# EAGLE library part MICRO_SD (library p.peter-connectors)
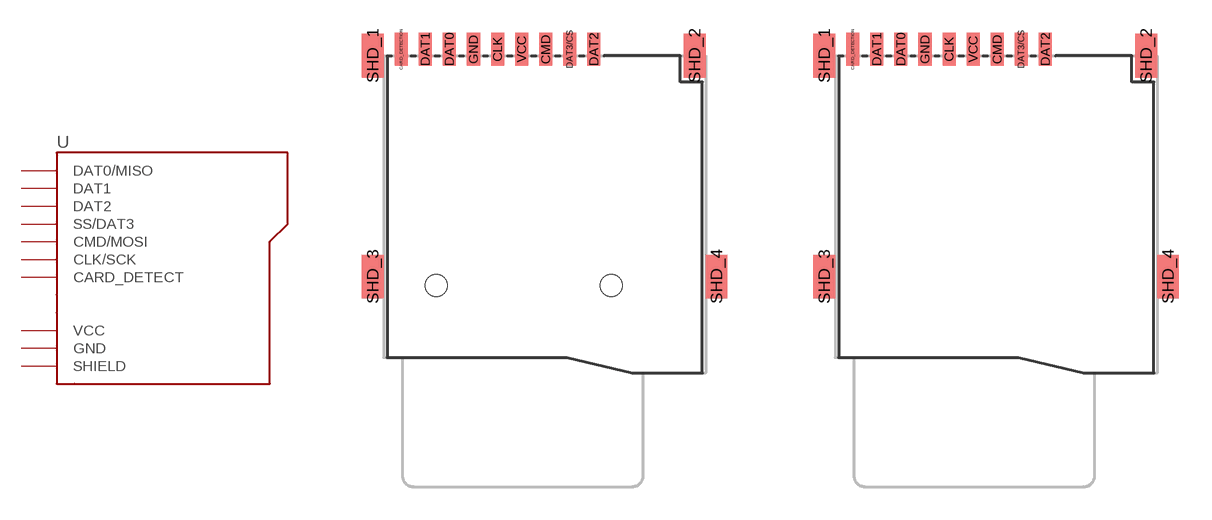
[diagram p2: symbol with the pads of MICRO_SD-MR**-AP*03**; footprints MICRO_SD-MR**-AP*03**, MICRO_SD-MR**-AP*03**-NO_HOLES]

Designator prefix -

## MICRO_SD-POLLIN  [MICRO_SD-MR**-AP*03**]
CARD_DETECTION  CARD_DETECT
CLK  CLK/SCK
CMD  CMD/MOSI
DAT0  DAT0/MISO
DAT1  DAT1
DAT2  DAT2
DAT3/CS  SS/DAT3
GND  GND
SHD_1  SHIELD
SHD_2  SHIELD
SHD_3  SHIELD
SHD_4  SHIELD
VCC  VCC

## MICRO_SD-POLLIN-NO_HOLES  [MICRO_SD-MR**-AP*03**-NO_HOLES]
Pads as for MICRO_SD-MR**-AP*03**

## Footprint MICRO_SD-MR**-AP*03** (pad centres in mm)
smd 0.6 x 1.5: CARD_DETECTION -6.55,6.8; CLK -2.15,6.8; CMD 0.05,6.8; DAT0 -4.35,6.8; DAT1 -5.45,6.8; DAT2 2.25,6.8; DAT3/CS 1.15,6.8; GND -3.25,6.8; VCC -1.05,6.8
smd 1 x 2: SHD_1 -7.85,6.5; SHD_2 6.85,6.5; SHD_3 -7.85,-3.6; SHD_4 7.85,-3.6
hole 1 at -4.95,-4
hole 1 at 3.05,-4

## Footprint MICRO_SD-MR**-AP*03**-NO_HOLES (pad centres in mm)
smd 0.6 x 1.5: CARD_DETECTION -6.55,6.8; CLK -2.15,6.8; CMD 0.05,6.8; DAT0 -4.35,6.8; DAT1 -5.45,6.8; DAT2 2.25,6.8; DAT3/CS 1.15,6.8; GND -3.25,6.8; VCC -1.05,6.8
smd 1 x 2: SHD_1 -7.85,6.5; SHD_2 6.85,6.5; SHD_3 -7.85,-3.6; SHD_4 7.85,-3.6